# Altium schematic symbol library leds.SchLib: 6 symbols
Pins are listed as number, name and electrical type; pins without a type are passive.

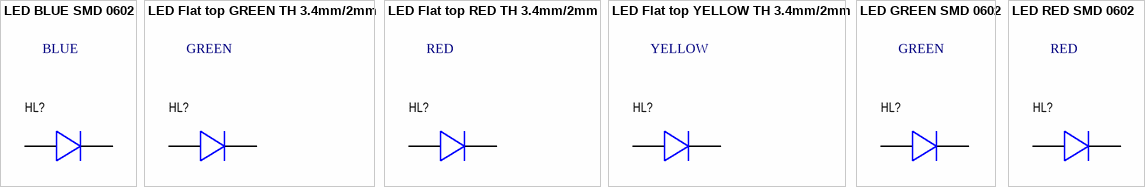
[diagram p0: symbols LED BLUE SMD 0602 to LED RED SMD 0602]

## LED BLUE SMD 0602
designator HL?, comment BLUE
LED BLUE SMD 0602
footprint LED BLUE SMD 0602 (BLUE LED)
pins: 1 Anode, 2 Cathode "Catode"

## LED Flat top GREEN TH 3.4mm/2mm
designator HL?, comment GREEN
10 mA, V=2.5 V; PartNumber: L-1394GDT; Supplier: Chipdip; Unit Price: 8; WebLink: https://www.chipdip.ru/product/l-1394gd-t
footprint LED GREEN TH L-1394GDT
pins: 1 Anode, 2 Cathode "Catode"

## LED Flat top RED TH 3.4mm/2mm
designator HL?, comment RED
10 mA, V=2.5 V; PartNumber: L-1394IDT; Supplier: Chipdip; Unit Price: 8; WebLink: https://www.chipdip.ru/product/l-1394id-t
footprint LED RED TH L-1394IDT
pins: 1 Anode, 2 Cathode "Catode"

## LED Flat top YELLOW TH 3.4mm/2mm
designator HL?, comment YELLOW
10 mA, V=2.5 V; PartNumber: L-1394YDT; Supplier: Chipdip; Unit Price: 8; WebLink: https://www.chipdip.ru/product/l-1394yd-t
footprint LED YELLOW TH L-1394YDT
pins: 1 Anode, 2 Cathode "Catode"

## LED GREEN SMD 0602
designator HL?, comment GREEN
LED GREEN SMD 0602
footprint LED GREEN SMD 0602 (GREEN LED)
pins: 1 Anode, 2 Cathode "Catode"

## LED RED SMD 0602
designator HL?, comment RED
LED RED SMD 0602
footprint LED RED SMD 0602 (RED LED)
pins: 1 Anode, 2 Cathode "Catode"